# Altium schematic symbol library 142-0701-201.SchLib: 1 symbol
Pins are listed as number, name and electrical type; pins without a type are passive.

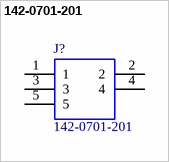
[diagram p0: symbol 142-0701-201]

## 142-0701-201
designator J?
SMA PCB Mount Straight Jack 50Ohm Cinch Connectors Straight 50 PCB Mount SMA Connector, jack, Solder Termination; Allied_Number: 70090263; Manufacturer_Name: Cinch; Manufacturer_Part_Number: 142-0701-201; RS Part Number: 8861061; RS Price/Stock: http://uk.rs-online.com/web/p/products/8861061; Allied Price/Stock: http://www.alliedelec.com/johnson-cinch-connectivity-solutions-142-0701-201/70090263/; Arrow Part Number: 142-0701-201; Arrow Price/Stock: https://www.arrow.com/en/products/142-0701-201/cinch-connectivity-solutions; Datasheet Link: http://jp.rs-online.com/web/p/sma-connectors/8861061/
footprint 142-0701-201
pins: 1, 2, 3, 4, 5